# EAGLE library part TE_HVPS (library nixiemisc)
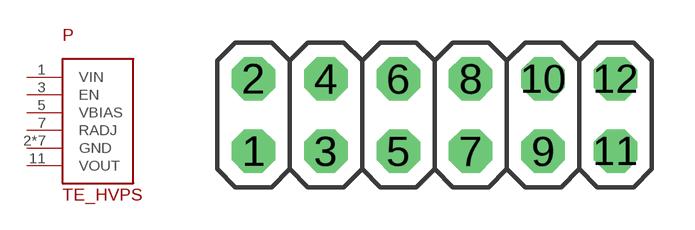
[diagram p7: symbol with the pads of 2X06; footprint 2X06]

Designator prefix P

## TE_HVPSVERTICAL  [2X06]
1  VIN  pwr
2  GND  pwr
3  EN  pas
4  GND  pwr
5  VBIAS  pwr
6  GND  pwr
7  RADJ  pas
8  GND  pwr
9  GND  pwr
10  GND  pwr
11  VOUT  pwr
12  GND  pwr

## Footprint 2X06 (pad centres in mm)
PIN HEADER
drill 1.016 octagon: 1 -6.35,-1.27; 2 -6.35,1.27; 3 -3.81,-1.27; 4 -3.81,1.27; 5 -1.27,-1.27; 6 -1.27,1.27; 7 1.27,-1.27; 8 1.27,1.27; 9 3.81,-1.27; 10 3.81,1.27; 11 6.35,-1.27; 12 6.35,1.27